# EAGLE library part MCP2515 (library Microchip)
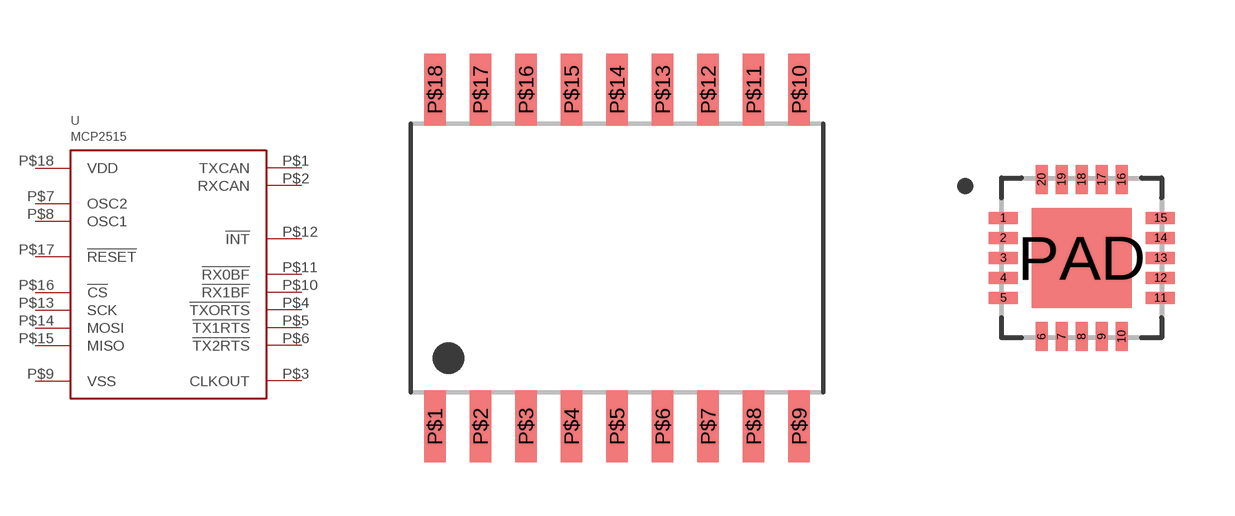
[diagram p25: symbol with the pads of WSOIC18; footprints WSOIC18, QFN20]

Designator prefix U

## MCP2515-SO  [WSOIC18]
P$1  TXCAN
P$2  RXCAN
P$3  CLKOUT
P$4  !TXORTS!
P$5  !TX1RTS!
P$6  !TX2RTS!
P$7  OSC2
P$8  OSC1
P$9  VSS
P$10  !RX1BF!
P$11  !RX0BF!
P$12  !INT!
P$13  SCK
P$14  MOSI
P$15  MISO
P$16  !CS!
P$17  !RESET!
P$18  VDD

## MCP2515-ML  [QFN20]
1  CLKOUT
2  !TXORTS!
3  !TX1RTS!
5  !TX2RTS!
6  OSC2
7  OSC1
8  VSS
9  !RX1BF!
10  !RX0BF!
11  !INT!
12  SCK
14  MOSI
15  MISO
16  !CS!
17  !RESET!
18  VDD
19  TXCAN
20  RXCAN
PAD  VSS

## Footprint WSOIC18 (pad centres in mm)
smd 0.6 x 2: P$1 -5.08,-4.7; P$2 -3.81,-4.7; P$3 -2.54,-4.7; P$4 -1.27,-4.7; P$5 0,-4.7; P$6 1.27,-4.7; P$7 2.54,-4.7; P$8 3.81,-4.7; P$9 5.08,-4.7; P$10 5.08,4.7; P$11 3.81,4.7; P$12 2.54,4.7; P$13 1.27,4.7; P$14 0,4.7; P$15 -1.27,4.7; P$16 -2.54,4.7; P$17 -3.81,4.7; P$18 -5.08,4.7

## Footprint QFN20 (pad centres in mm)
smd 0.73 x 0.3: 1 -1.965,1; 2 -1.965,0.5; 3 -1.965,0; 4 -1.965,-0.5; 5 -1.965,-1; 11 1.965,-1; 12 1.965,-0.5; 13 1.965,0; 14 1.965,0.5; 15 1.965,1
smd 0.3 x 0.73: 6 -1,-1.965; 7 -0.5,-1.965; 8 0,-1.965; 9 0.5,-1.965; 10 1,-1.965; 16 1,1.965; 17 0.5,1.965; 18 0,1.965; 19 -0.5,1.965; 20 -1,1.965
smd 2.5 x 2.5: PAD 0,0